# EAGLE library part GENERIC-SIP-7_ (library newNVSL)
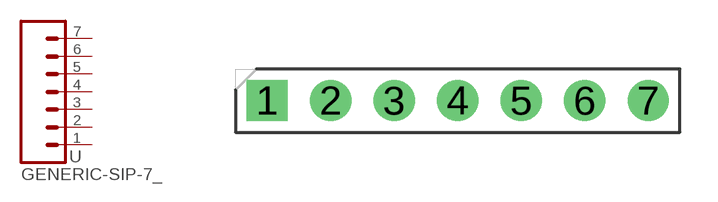
[diagram p8: symbol with the pads of HDRV7W63P254_7X1_1778X254H838; footprint HDRV7W63P254_7X1_1778X254H838]

Designator prefix -

## GENERIC-SIP-7_2.54-SPACE-VERTICAL  [HDRV7W63P254_7X1_1778X254H838]
1  1  pas
2  2  pas
3  3  pas
4  4  pas
5  5  pas
6  6  pas
7  7  pas

## Footprint HDRV7W63P254_7X1_1778X254H838 (pad centres in mm)
drill 1.1 pad 1.65 square: 1 0,0
drill 1.1 pad 1.65: 2 2.54,0; 3 5.08,0; 4 7.62,0; 5 10.16,0; 6 12.7,0; 7 15.24,0